# Altium schematic symbol library 12062C104JAT2A.SchLib: 1 symbol
Pins are listed as number, name and electrical type; pins without a type are passive.

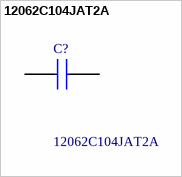
[diagram p0: symbol 12062C104JAT2A]

## 12062C104JAT2A
designator C?
Cap Ceramic 0.1uF 200V X7R 5% Pad SMD 1206 125C T/R; Manufacturer_Name: Kyocera AVX; Geometry.Height: 1.78mm; Mouser Part Number: 581-12062C104JAT2A; Mouser Price/Stock: https://www.mouser.co.uk/ProductDetail/AVX/12062C104JAT2A?qs=ZBeOGGPQgEEapHNxb9gG6A%3D%3D; Manufacturer_Part_Number: 12062C104JAT2A; Datasheet Link: https://datasheets.avx.com/X7RDielectric.pdf
footprint CAPC3216X178N
pins: 1, 2